# Altium footprint library MCU089B.PcbLib: 51 footprints (part 1 of 4)
Each footprint in its own frame and in the unit in brackets; x right, y up, seen from the top. Pads: shape width x height; smd on the part's side, far side on the other; paste and mask are expansions set on the pad; w line width, h text height; cw(c..) or ccw(c..) is an arc to the next point about the centre after c.
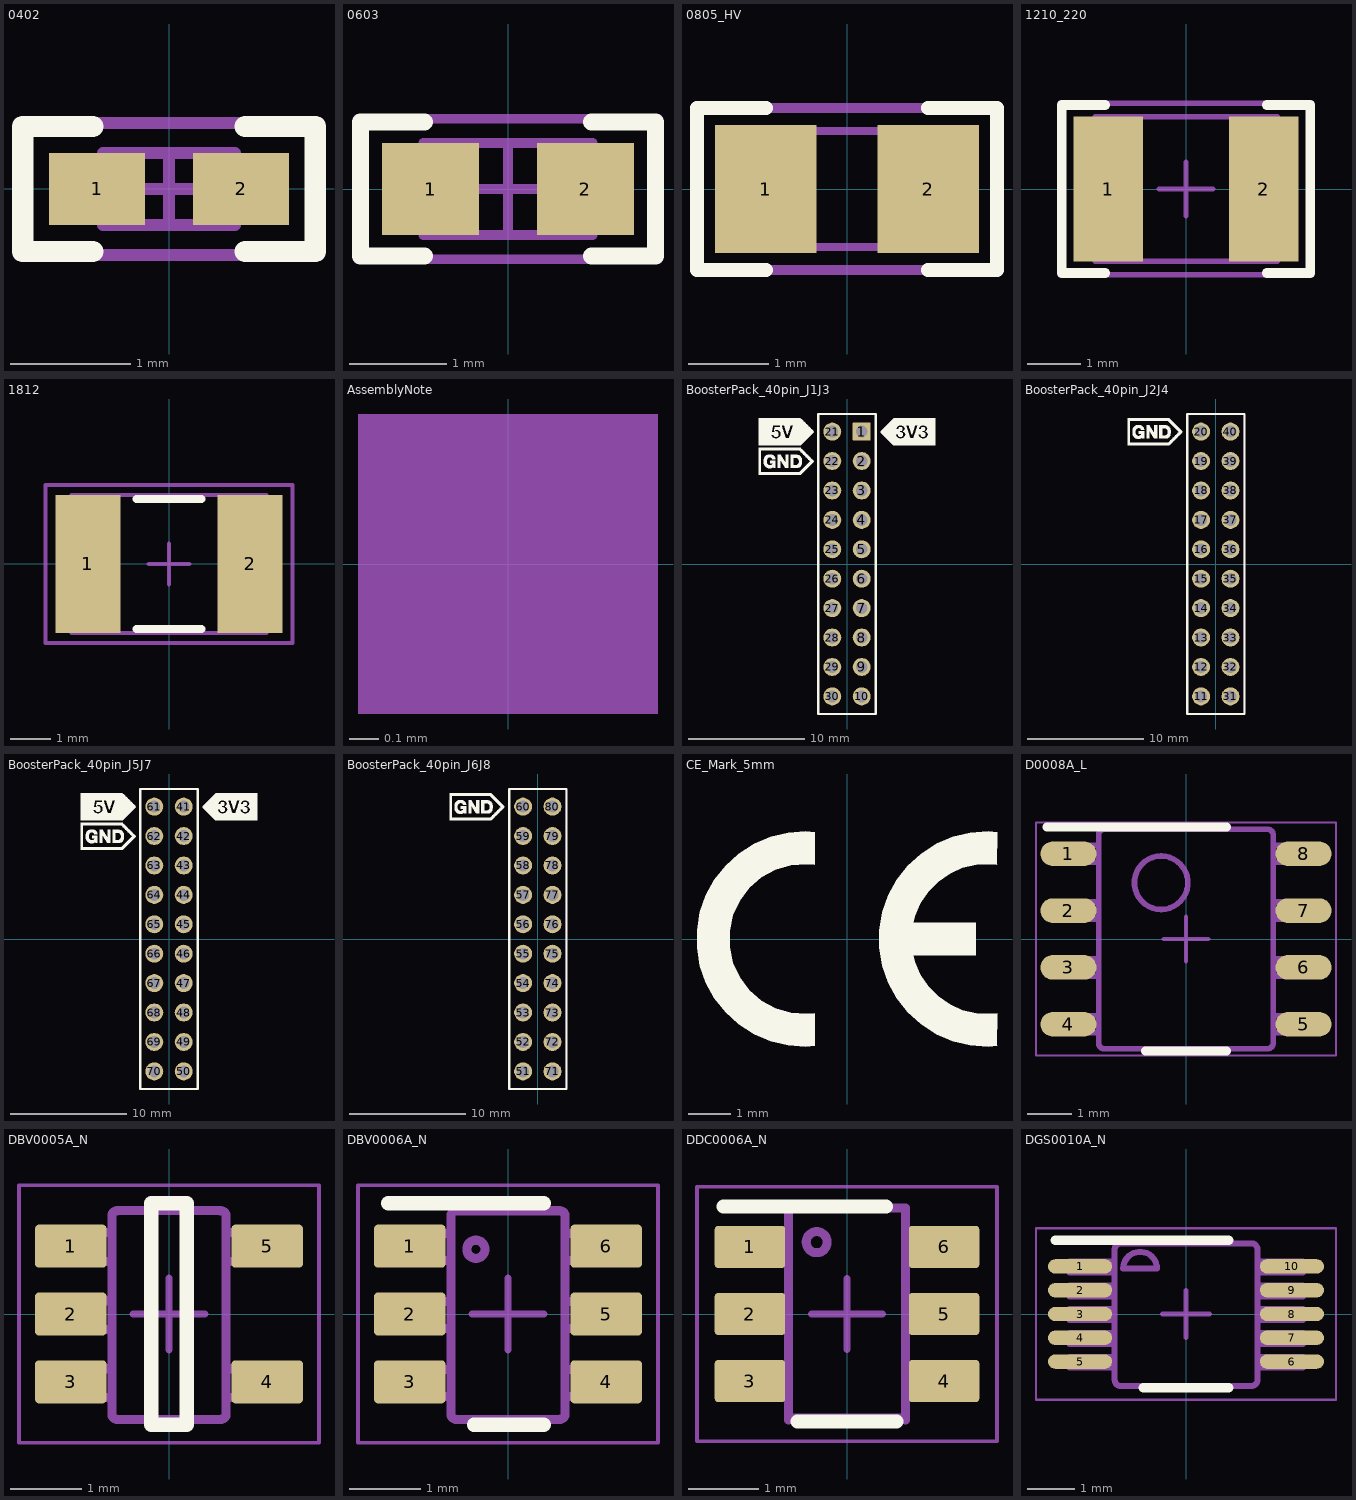
[diagram p0: the footprints below, top view; thin cyan lines are the x and y axes]

## 0402 [mm] "0402 from SM-752 data"
height 0.6
pads (2):
  rect 0.8x0.6 smd: 1(-0.6,0) 2(0.6,0)
Top Overlay:
  lines w0.178: -0.635,-0.521 -1.219,-0.521 -1.219,0.521 -0.635,0.521 ; 0.635,-0.521 1.219,-0.521 1.219,0.521 0.635,0.521
Mechanical 5:
  lines w0.1: -1.25,-0.55 -1.25,0.55 1.25,0.55 1.25,-0.55 -1.25,-0.55
  text ".Designator" at -1.117,-0.305 h0.61
Mechanical 13:
  lines w0.1: -0.35,-0.3 -0.35,0.3 ; 0.35,-0.3 0.35,0.3 ; -0.55,-0.3 0.55,-0.3 0.55,0.3 -0.55,0.3 -0.55,-0.3
Mechanical 15:
  lines w0.1: -0.3,0 0.3,0 ; 0,-0.3 0,0.3 ; -1.25,-0.55 1.25,-0.55 1.25,0.55 -1.25,0.55 -1.25,-0.55
3D body: height 0.6, standoff 0, extent 0.351,-0.299 0.549,0.299
3D body: height 0.6, standoff 0, extent -0.349,-0.299 0.349,0.299
3D body: height 0.6, standoff 0, extent -0.549,-0.299 -0.351,0.299

## 0603 [mm] "0603 from SM-752 data"
height 1
pads (2):
  rect 1x0.95 smd: 1(-0.8,0) 2(0.8,0)
Top Overlay:
  lines w0.178: -0.864,-0.691 -1.524,-0.691 -1.524,0.693 -0.864,0.693 ; 0.864,-0.691 1.524,-0.691 1.524,0.693 0.864,0.693
Mechanical 5:
  lines w0.1: -1.55,-0.725 1.55,-0.725 1.55,0.725 -1.55,0.725 -1.55,-0.725
  text ".Designator" at -1.397,-0.381 h0.76
Mechanical 13:
  lines w0.1: -0.55,-0.475 -0.55,0.475 ; 0.55,-0.475 0.55,0.475 ; -0.875,-0.475 -0.875,0.475 0.875,0.475 0.875,-0.475 -0.875,-0.475
Mechanical 15:
  lines w0.1: -0.475,0 0.475,0 ; 0,-0.475 0,0.475 ; -1.55,-0.725 -1.55,0.725 1.55,0.725 1.55,-0.725 -1.55,-0.725
3D body: height 1, standoff 0, extent 0.551,-0.474 0.874,0.474
3D body: height 1, standoff 0, extent -0.549,-0.474 0.549,0.474
3D body: height 1, standoff 0, extent -0.874,-0.474 -0.551,0.474

## 0805_HV [mil] "0805 with 30mil clearance between pads"
height 57.09
pads (2):
  rect 50x63 smd: 1(-40,0) 2(40,0)
Top Overlay:
  lines w7: -40,-40 -74,-40 -74,0 -74,40 -40,40 ; 40,-40 74,-40 74,0 74,40 40,40
Mechanical 5:
  lines w5: -74,-40 -74,40 74,40 74,-40 -74,-40
  text ".Designator" at -64,-17 h35
Mechanical 13:
  lines w3.94: -25.59,-28.54 -25.59,28.54 ; 25.59,-28.54 25.59,28.54 ; -43.31,-28.54 -43.31,28.54 43.31,28.54 43.31,-28.54 -43.31,-28.54
3D body: height 57.09, standoff 0, extent 25.61,-28.52 43.29,28.52
3D body: height 57.09, standoff 0, extent -25.57,-28.52 25.57,28.52
3D body: height 57.09, standoff 0, extent -43.29,-28.52 -25.61,28.52

## 1210_220 [mm] "1210"
height 2.2
pads (2):
  rect 1.3x2.7 smd: 1(-1.45,0) 2(1.45,0)
Top Overlay:
  lines w0.178: -1.511,-1.568 -2.316,-1.568 -2.316,1.568 -1.511,1.568 ; 1.511,-1.568 2.316,-1.568 2.316,1.568 1.511,1.568
Mechanical 5:
  lines w0.1: -1.7,-1.35 -1.7,1.35 1.7,1.35 1.7,-1.35 -1.7,-1.35
  text ".Designator" at -1.4,-0.375 h0.76
Mechanical 13:
  lines w0.1: -1.2,-1.35 -1.2,1.35 ; 1.2,-1.35 1.2,1.35 ; -1.7,-1.35 1.7,-1.35 1.7,1.35 -1.7,1.35 -1.7,-1.35
Mechanical 15:
  lines w0.1: -0.5,0 0.5,0 ; 0,-0.5 0,0.5 ; -2.35,-1.6 2.35,-1.6 2.35,1.6 -2.35,1.6 -2.35,-1.6
3D body: height 2.2, standoff 0, extent 1.201,-1.349 1.699,1.349
3D body: height 2.2, standoff 0, extent -1.199,-1.349 1.199,1.349
3D body: height 2.2, standoff 0, extent -1.699,-1.349 -1.201,1.349

## 1812 [mm]
height 1.35
pads (2):
  rect 1.6x3.4 smd: 1(-2,0) 2(2,0)
Top Overlay:
  lines w0.2: -0.8,-1.6 0.8,-1.6 ; -0.8,1.6 0.8,1.6
Mechanical 5:
  lines w0.1: -2.4,-1.7 2.4,-1.7 2.4,1.7 -2.4,1.7 -2.4,-1.7
  text ".Designator" at -1.875,-0.5 h1.02
Mechanical 13:
  lines w0.1: -1.9,-1.7 -1.9,1.7 ; 1.9,-1.7 1.9,1.7 ; -2.4,-1.7 -2.4,1.7 2.4,1.7 2.4,-1.7 -2.4,-1.7
Mechanical 15:
  lines w0.1: -0.5,0 0.5,0 ; 0,-0.5 0,0.5 ; -3.05,-1.95 -3.05,1.95 3.05,1.95 3.05,-1.95 -3.05,-1.95
3D body: height 1.35, standoff 0, extent -2.399,-1.699 -1.901,1.699
3D body: height 1.35, standoff 0, extent -1.899,-1.699 1.899,1.699
3D body: height 1.35, standoff 0, extent 1.901,-1.699 2.399,1.699

## AssemblyNote [mm] "Assembly Note"
height 8.64
Mechanical 5:
  rectangle: -0.508,-0.508 0.508,0.508
  text ".Comment" at 1.143,-0.508 h1.02
  text ".Designator" at -4.191,-0.508 h1.02

## BoosterPack_40pin_J1J3 [mm] "Receptacle, 2.54mm, 10x2, TH"
height 8.64
pads (20):
  rrect6% 1.55x1.55 hole 1.02: 1(1.27,11.43)
  round 1.55 hole 1.02: 2(1.27,8.89) 3(1.27,6.35) 4(1.27,3.81) 5(1.27,1.27) 6(1.27,-1.27) 7(1.27,-3.81) 8(1.27,-6.35) 9(1.27,-8.89) 10(1.27,-11.43) 21(-1.27,11.43) 22(-1.27,8.89) 23(-1.27,6.35) 24(-1.27,3.81) 25(-1.27,1.27) 26(-1.27,-1.27) 27(-1.27,-3.81) 28(-1.27,-6.35) 29(-1.27,-8.89) 30(-1.27,-11.43)
Top Overlay:
  drawing of 1871 lines, arcs and shapes, not listed
Bottom Overlay:
  drawing of 1868 lines, arcs and shapes, not listed
  text "21" at -0.762,13.208 h0.76
  text "30" at -0.635,-13.97 h0.76
  text "1" at 1.397,13.208 h0.76
  text "10" at 1.829,-13.97 h0.76
  text "J3" at -2.5,13.208 h1.02
  text "J1" at 4.292,13.208 h1.02
Mechanical 5:
  lines w0.1: -2.476,-12.954 2.477,-12.954 2.477,12.954 -2.476,12.954 -2.476,-12.954
  text ".Designator" at -0.508,1.524 h1.02
3D body "SSQ-110-03-T-D.stp": height 8.51, standoff -10.01, extent -2.476,-12.954 2.477,12.954

## BoosterPack_40pin_J2J4 [mm] "Receptacle, 2.54mm, 10x2, TH"
height 8.64
pads (20):
  round 1.55 hole 1.02: 11(-1.27,-11.43) 12(-1.27,-8.89) 13(-1.27,-6.35) 14(-1.27,-3.81) 15(-1.27,-1.27) 16(-1.27,1.27) 17(-1.27,3.81) 18(-1.27,6.35) 19(-1.27,8.89) 20(-1.27,11.43) 31(1.27,-11.43) 32(1.27,-8.89) 33(1.27,-6.35) 34(1.27,-3.81) 35(1.27,-1.27) 36(1.27,1.27) 37(1.27,3.81) 38(1.27,6.35) 39(1.27,8.89) 40(1.27,11.43)
Top Overlay:
  drawing of 822 lines, arcs and shapes, not listed
Bottom Overlay:
  drawing of 818 lines, arcs and shapes, not listed
  text "J4" at 4.292,13.208 h1.02
  text "J2" at -2.5,13.208 h1.02
  text "20" at -0.635,13.208 h0.76
  text "11" at -0.838,-13.97 h0.76
  text "31" at 1.778,-13.97 h0.76
  text "40" at 1.905,13.208 h0.76
Mechanical 5:
  lines w0.1: -2.476,-12.954 2.477,-12.954 2.477,12.954 -2.476,12.954 -2.476,-12.954
  text ".Designator" at -0.508,1.524 h1.02
3D body "SSQ-110-03-T-D.stp": height 8.51, standoff -10.01, extent -2.476,-12.954 2.477,12.954

## BoosterPack_40pin_J5J7 [mm] "Receptacle, 2.54mm, 10x2, TH"
height 8.64
pads (20):
  round 1.55 hole 1.02: 41(1.27,11.43) 42(1.27,8.89) 43(1.27,6.35) 44(1.27,3.81) 45(1.27,1.27) 46(1.27,-1.27) 47(1.27,-3.81) 48(1.27,-6.35) 49(1.27,-8.89) 50(1.27,-11.43) 61(-1.27,11.43) 62(-1.27,8.89) 63(-1.27,6.35) 64(-1.27,3.81) 65(-1.27,1.27) 66(-1.27,-1.27) 67(-1.27,-3.81) 68(-1.27,-6.35) 69(-1.27,-8.89) 70(-1.27,-11.43)
Top Overlay:
  drawing of 1871 lines, arcs and shapes, not listed
Bottom Overlay:
  drawing of 1868 lines, arcs and shapes, not listed
  text "J5" at 4.292,13.208 h1.02
  text "J7" at -2.5,13.208 h1.02
  text "50" at 1.829,-13.97 h0.76
  text "41" at 1.905,13.208 h0.76
  text "70" at -0.635,-13.97 h0.76
  text "61" at -0.762,13.208 h0.76
Mechanical 5:
  lines w0.1: -2.476,-12.954 -2.476,12.954 2.477,12.954 2.477,-12.954 -2.476,-12.954
  text ".Designator" at -0.508,1.524 h1.02
3D body "SSQ-110-03-T-D.stp": height 8.51, standoff -10.01, extent -2.476,-12.954 2.477,12.954

## BoosterPack_40pin_J6J8 [mm] "Receptacle, 2.54mm, 10x2, TH"
height 8.64
pads (20):
  round 1.55 hole 1.02: 51(-1.27,-11.43) 52(-1.27,-8.89) 53(-1.27,-6.35) 54(-1.27,-3.81) 55(-1.27,-1.27) 56(-1.27,1.27) 57(-1.27,3.81) 58(-1.27,6.35) 59(-1.27,8.89) 60(-1.27,11.43) 71(1.27,-11.43) 72(1.27,-8.89) 73(1.27,-6.35) 74(1.27,-3.81) 75(1.27,-1.27) 76(1.27,1.27) 77(1.27,3.81) 78(1.27,6.35) 79(1.27,8.89) 80(1.27,11.43)
Top Overlay:
  drawing of 822 lines, arcs and shapes, not listed
Bottom Overlay:
  drawing of 818 lines, arcs and shapes, not listed
  text "80" at 1.905,13.208 h0.76
  text "71" at 1.778,-13.97 h0.76
  text "51" at -0.838,-13.97 h0.76
  text "60" at -0.635,13.208 h0.76
  text "J6" at -2.5,13.208 h1.02
  text "J8" at 4.292,13.208 h1.02
Mechanical 5:
  lines w0.1: -2.476,-12.954 -2.476,12.954 2.477,12.954 2.477,-12.954 -2.476,-12.954
  text ".Designator" at -0.508,1.524 h1.02
3D body "SSQ-110-03-T-D.stp": height 8.51, standoff -10.01, extent -2.476,-12.954 2.477,12.954

## CE_Mark_5mm [mm] "Minimum text height for CE Mark"
Top Overlay:
  region: 3.5,-1.732 3.337,-1.748 3.01,-1.733 2.691,-1.658 2.392,-1.525 2.123,-1.339 1.894,-1.106 1.712,-0.834 1.583,-0.533 1.541,-0.375 3,-0.375 3,0.375 1.541,0.375 1.583,0.533 1.712,0.834 1.894,1.106 2.123,1.339 2.392,1.525 2.691,1.658 3.01,1.733 3.337,1.748 3.5,1.732 3.5,2.487 3.292,2.508 2.874,2.48 2.467,2.383 2.081,2.22 1.728,1.994 1.418,1.714 1.158,1.385 0.957,1.018 0.82,0.622 0.75,0.209 0.75,-0.209 0.82,-0.622 0.957,-1.018 1.158,-1.385 1.418,-1.714 1.728,-1.994 2.081,-2.22 2.467,-2.383 2.874,-2.48 3.292,-2.508 3.5,-2.487
  region: -0.75,-2.487 -0.958,-2.508 -1.376,-2.48 -1.783,-2.383 -2.169,-2.22 -2.522,-1.994 -2.832,-1.714 -3.092,-1.385 -3.293,-1.018 -3.43,-0.622 -3.5,-0.209 -3.5,0.209 -3.43,0.622 -3.293,1.018 -3.092,1.385 -2.832,1.714 -2.522,1.994 -2.169,2.22 -1.783,2.383 -1.376,2.48 -0.958,2.508 -0.75,2.487 -0.75,1.732 -0.937,1.749 -1.31,1.722 -1.669,1.617 -1.998,1.438 -2.281,1.193 -2.505,0.893 -2.66,0.553 -2.74,0.187 -2.74,-0.187 -2.66,-0.553 -2.505,-0.893 -2.281,-1.193 -1.998,-1.438 -1.669,-1.617 -1.31,-1.722 -0.937,-1.749 -0.75,-1.732

## D0008A_L [mm] "SOIC, 8-Leads, Body 4.9x3.9mm, Pitch 1.27mm, IPC High Density"
height 1.75
pads (8):
  oval 1.25x0.55 smd: 1(-2.625,1.905) 2(-2.625,0.635) 3(-2.625,-0.635) 4(-2.625,-1.905) 5(2.625,-1.905) 6(2.625,-0.635) 7(2.625,0.635) 8(2.625,1.905)
Top Overlay:
  lines w0.2: -3.1,2.5 0.9,2.5 ; -0.9,-2.5 0.9,-2.5
Mechanical 5:
  lines w0.127: -2.375,-2.095 -2.375,-1.715 ; -2.375,-2.095 -2.589,-2.095 -3.002,-2.095 -3.002,-1.715 -2.589,-1.715 -2.375,-1.715 ; -2.375,-2.095 -1.995,-2.095 -1.952,-2.095 -1.952,-1.715 -1.995,-1.715 -2.375,-1.715 ; -2.375,-0.825 -2.375,-0.445 ; -2.375,-0.825 -2.589,-0.825 -3.002,-0.825 -3.002,-0.445 -2.589,-0.445 -2.375,-0.445 ; -2.375,-0.825 -1.995,-0.825 -1.952,-0.825 -1.952,-0.445 -1.995,-0.445 -2.375,-0.445 ; -2.375,0.445 -2.375,0.825 ; -2.375,0.445 -2.589,0.445 -3.002,0.445 -3.002,0.825 -2.589,0.825 -2.375,0.825 ; -2.375,0.445 -1.995,0.445 -1.952,0.445 -1.952,0.825 -1.995,0.825 -2.375,0.825 ; -2.375,1.715 -2.375,2.095 ; -2.375,1.715 -2.589,1.715 -3.002,1.715 -3.002,2.095 -2.589,2.095 -2.375,2.095 ; -2.375,1.715 -1.995,1.715 -1.952,1.715 -1.952,2.095 -1.995,2.095 -2.375,2.095 ; -0.332,-2.45 -0.182,-2.45 ; -0.332,-2.45 -0.182,-2.45 ; -0.332,-2.45 -1.825,-2.45 -1.826,-2.45 cw(c-1.825,-2.323) -1.952,-2.324 -1.952,-2.323 -1.952,2.323 -1.952,2.324 cw(c-1.825,2.323) -1.826,2.45 -1.825,2.45 -0.332,2.45 ; -0.332,2.45 -0.182,2.45 ; -0.332,2.45 -0.182,2.45 ; -0.182,-2.45 0.178,-2.45 ; -0.182,2.45 0.178,2.45 ; 0.178,-2.45 0.328,-2.45 ; 0.178,-2.45 0.328,-2.45 ; 0.178,2.45 0.328,2.45 ; 0.178,2.45 0.328,2.45 ; 0.328,-2.45 1.821,-2.45 1.822,-2.45 ccw(c1.821,-2.323) 1.948,-2.324 1.948,-2.323 1.948,2.323 1.948,2.324 ccw(c1.821,2.323) 1.822,2.45 1.821,2.45 0.328,2.45 ; 2.371,-2.095 2.371,-1.715 ; 2.371,-2.095 1.991,-2.095 1.948,-2.095 1.948,-1.715 1.991,-1.715 2.371,-1.715 ; 2.371,-2.095 2.585,-2.095 2.998,-2.095 2.998,-1.715 2.585,-1.715 2.371,-1.715 ; 2.371,-0.825 2.371,-0.445 ; 2.371,-0.825 1.991,-0.825 1.948,-0.825 1.948,-0.445 1.991,-0.445 2.371,-0.445 ; 2.371,-0.825 2.585,-0.825 2.998,-0.825 2.998,-0.445 2.585,-0.445 2.371,-0.445 ; 2.371,0.445 2.371,0.825 ; 2.371,0.445 1.991,0.445 1.948,0.445 1.948,0.825 1.991,0.825 2.371,0.825 ; 2.371,0.445 2.585,0.445 2.998,0.445 2.998,0.825 2.585,0.825 2.371,0.825 ; 2.371,1.715 2.371,2.095 ; 2.371,1.715 1.991,1.715 1.948,1.715 1.948,2.095 1.991,2.095 2.371,2.095 ; 2.371,1.715 2.585,1.715 2.998,1.715 2.998,2.095 2.585,2.095 2.371,2.095 ; -0.555,0.659 ccw(c-0.555,1.256) -0.555,1.853 ccw(c-0.555,1.256) -0.555,0.659
  text ".Designator" at -1.625,-0.625 h0.89
Mechanical 15:
  lines w0.05: -3.35,-2.6 3.35,-2.6 3.35,2.6 -3.35,2.6 -3.35,-2.6
  lines w0.1: -0.5,0 0.5,0 ; 0,-0.5 0,0.5
3D body "D0008A.stp": height 1.63, standoff 0, extent -3,-2.45 3,2.45

## DBV0005A_N [mm] "SOT23, 5-Leads, Body 2.9x1.6mm, Pitch 0.95mm, Lead Span 2.8mm, IPC Medium Density"
height 1.45
pads (5):
  rrect17% 1x0.6 smd: 1(-1.375,0.95) 2(-1.375,0) 3(-1.375,-0.95) 4(1.375,-0.95) 5(1.375,0.95)
Top Overlay:
  lines w0.2: -0.25,-1.55 -0.25,1.55 0.25,1.55 0.25,-1.55 -0.25,-1.55
Mechanical 5:
  lines w0.127: -0.801,1.371 cw(c-0.725,1.37) -0.725,1.446 ; -0.801,1.37 -0.801,1.371 ; -0.801,1.37 -0.801,-1.399 -0.801,-1.4 ccw(c-0.725,-1.399) -0.725,-1.475 ; -0.725,-1.475 0.723,-1.475 0.724,-1.475 ccw(c0.723,-1.399) 0.799,-1.4 0.799,-1.399 0.799,1.37 ; -0.725,-1.475 -0.725,-1.475 ; -0.725,1.446 -0.725,1.446 ; -0.725,1.446 0.723,1.446 0.724,1.446 cw(c0.723,1.37) 0.799,1.371 ; 0.799,1.37 0.799,1.371 ; -1.423,-1.167 -1.423,-0.767 -1.199,-0.767 -1.105,-0.767 -1.088,-0.767 -0.835,-0.767 -0.801,-0.767 -0.801,-1.167 -0.835,-1.167 -1.088,-1.167 -1.105,-1.167 -1.199,-1.167 -1.423,-1.167 ; -1.423,-0.215 -1.423,0.186 -1.199,0.186 -1.105,0.186 -1.088,0.186 -0.835,0.186 -0.801,0.186 -0.801,-0.215 -0.835,-0.215 -1.088,-0.215 -1.105,-0.215 -1.199,-0.215 -1.423,-0.215 ; -1.423,0.738 -1.423,1.138 -1.199,1.138 -1.105,1.138 -1.088,1.138 -0.835,1.138 -0.801,1.138 -0.801,0.738 -0.835,0.738 -1.088,0.738 -1.105,0.738 -1.199,0.738 -1.423,0.738 ; 0.799,-1.167 0.834,-1.167 1.087,-1.167 1.103,-1.167 1.198,-1.167 1.422,-1.167 1.422,-0.767 1.198,-0.767 1.103,-0.767 1.087,-0.767 0.834,-0.767 0.799,-0.767 0.799,-1.167 ; 0.799,0.738 0.834,0.738 1.087,0.738 1.103,0.738 1.198,0.738 1.422,0.738 1.422,1.138 1.198,1.138 1.103,1.138 1.087,1.138 0.834,1.138 0.799,1.138 0.799,0.738
  text ".Designator" at -0.25,0.95 h0.51
Mechanical 15:
  lines w0.05: -2.1,-1.8 -2.1,1.8 2.1,1.8 2.1,-1.8 -2.1,-1.8
  lines w0.1: -0.5,0 0.5,0 ; 0,-0.5 0,0.5
3D body "DBV0005A.stp": height 1.09, standoff 0, extent -1.422,-1.461 1.423,1.46

## DBV0006A_N [mm] "SOT23, 6-Leads, Body 2.9x1.6mm, Pitch 0.95mm, Lead Span 2.8mm, IPC Medium Density"
height 1.45
pads (6):
  rrect17% 1x0.6 smd: 1(-1.375,0.95) 2(-1.375,0) 3(-1.375,-0.95) 4(1.375,-0.95) 5(1.375,0) 6(1.375,0.95)
Top Overlay:
  lines w0.2: -1.675,1.55 0.5,1.55 ; -0.475,-1.55 0.5,-1.55
Mechanical 5:
  lines w0.127: 0.724,-1.475 ccw(c0.723,-1.399) 0.8,-1.399 0.8,1.37 ccw(c0.723,1.37) 0.724,1.446 ; 0.723,-1.475 0.724,-1.475 ; 0.723,-1.475 -0.724,-1.475 -0.725,-1.475 cw(c-0.724,-1.399) -0.801,-1.399 -0.801,1.37 cw(c-0.724,1.37) -0.725,1.446 -0.724,1.446 0.723,1.446 ; 0.723,1.446 0.724,1.446 ; -1.423,-1.154 -1.206,-1.154 -1.113,-1.154 -1.081,-1.154 -0.828,-1.154 -0.801,-1.154 -0.801,-0.78 -0.828,-0.78 -1.081,-0.78 -1.113,-0.78 -1.206,-0.78 -1.423,-0.78 -1.423,-1.154 ; -1.423,-0.202 -1.206,-0.202 -1.113,-0.202 -1.081,-0.202 -0.828,-0.202 -0.801,-0.202 -0.801,0.173 -0.828,0.173 -1.081,0.173 -1.113,0.173 -1.206,0.173 -1.423,0.173 -1.423,-0.202 ; -1.423,0.751 -1.206,0.751 -1.113,0.751 -1.081,0.751 -0.828,0.751 -0.801,0.751 -0.801,1.125 -0.828,1.125 -1.081,1.125 -1.113,1.125 -1.206,1.125 -1.423,1.125 -1.423,0.751 ; -0.577,0.906 cw(c-0.45,0.906) -0.323,0.906 cw(c-0.45,0.906) -0.577,0.906 ; 0.8,-1.154 0.827,-1.154 1.08,-1.154 1.112,-1.154 1.205,-1.154 1.422,-1.154 1.422,-0.78 1.205,-0.78 1.112,-0.78 1.08,-0.78 0.827,-0.78 0.8,-0.78 0.8,-1.154 ; 0.8,-0.202 0.827,-0.202 1.08,-0.202 1.112,-0.202 1.205,-0.202 1.422,-0.202 1.422,0.173 1.205,0.173 1.112,0.173 1.08,0.173 0.827,0.173 0.8,0.173 0.8,-0.202 ; 0.8,0.751 0.827,0.751 1.08,0.751 1.112,0.751 1.205,0.751 1.422,0.751 1.422,1.125 1.205,1.125 1.112,1.125 1.08,1.125 0.827,1.125 0.8,1.125 0.8,0.751
  text ".Designator" at -0.075,0.925 h0.51
Mechanical 15:
  lines w0.05: -2.1,-1.8 2.1,-1.8 2.1,1.8 -2.1,1.8 -2.1,-1.8
  lines w0.1: -0.5,0 0.5,0 ; 0,-0.5 0,0.5
3D body "DBV0006A.stp": height 1.12, standoff 0, extent -1.422,-1.461 1.423,1.46

## DDC0006A_N [mm]
height 1.1
pads (6):
  rrect17% 1x0.6 smd: 1(-1.375,0.95) 2(-1.375,0) 3(-1.375,-0.95) 4(1.375,-0.95) 5(1.375,0) 6(1.375,0.95)
Top Overlay:
  lines w0.2: -1.75,1.525 0.55,1.525 ; -0.7,-1.524 0.7,-1.524
Mechanical 5:
  lines w0.127: -0.828,-1.5 -0.828,1.5 0.828,1.5 0.828,-1.5 ; -0.825,-1.165 -1.437,-1.165 -1.437,-0.735 -0.825,-0.735 ; -0.825,-0.215 -1.437,-0.215 -1.437,0.215 -0.825,0.215 ; -0.825,0.735 -1.437,0.735 -1.437,1.165 -0.825,1.165 ; -0.754,-1.47 -0.75,-1.47 0.743,-1.47 0.747,-1.47 ; -0.754,1.5 -0.75,1.5 ; 0.743,1.5 0.747,1.5 ; 0.825,-1.165 1.437,-1.165 1.437,-0.735 0.825,-0.735 ; 0.825,-0.215 1.437,-0.215 1.437,0.215 0.825,0.215 ; 0.825,0.735 1.437,0.735 1.437,1.165 0.825,1.165 ; -0.578,1.018 ccw(c-0.43,1.018) -0.281,1.018 ccw(c-0.43,1.018) -0.578,1.018
  text ".Designator" at -0.246,2.641 h0.51
Mechanical 15:
  lines w0.05: -2.125,-1.8 -2.125,1.8 2.125,1.8 2.125,-1.8 -2.125,-1.8
  lines w0.1: -0.5,0 0.5,0 ; 0,-0.5 0,0.5
3D body "DDC0006A.stp": height 0.92, standoff 0, extent -1.434,-1.485 1.434,1.485

## DGS0010A_N [mm] "TSSOP, 10-Leads, Body 3x3mm, Pitch 0.5mm, IPC Medium Density"
height 1.1
pads (10):
  oval 1.35x0.3 smd: 1(-2.225,1) 2(-2.225,0.5) 3(-2.225,0) 4(-2.225,-0.5) 5(-2.225,-1) 6(2.225,-1) 7(2.225,-0.5) 8(2.225,0) 9(2.225,0.5) 10(2.225,1)
Top Overlay:
  lines w0.2: -2.75,1.55 0.9,1.55 ; -0.9,-1.55 0.9,-1.55
Mechanical 5:
  lines w0.127: -2.45,-1.128 -2.21,-1.128 -2.09,-1.128 -2.087,-1.128 -1.784,-1.128 -1.498,-1.128 -1.498,-0.899 -1.784,-0.899 -2.087,-0.899 -2.09,-0.899 -2.21,-0.899 -2.45,-0.899 -2.45,-1.128 ; -2.45,-0.628 -2.21,-0.628 -2.09,-0.628 -2.087,-0.628 -1.784,-0.628 -1.498,-0.628 -1.498,-0.4 -1.784,-0.4 -2.087,-0.4 -2.09,-0.4 -2.21,-0.4 -2.45,-0.4 -2.45,-0.628 ; -2.45,-0.128 -2.21,-0.128 -2.09,-0.128 -2.087,-0.128 -1.784,-0.128 -1.498,-0.128 -1.498,0.1 -1.784,0.1 -2.087,0.1 -2.09,0.1 -2.21,0.1 -2.45,0.1 -2.45,-0.128 ; -2.45,0.372 -2.21,0.372 -2.09,0.372 -2.087,0.372 -1.784,0.372 -1.498,0.372 -1.498,0.6 -1.784,0.6 -2.087,0.6 -2.09,0.6 -2.21,0.6 -2.45,0.6 -2.45,0.372 ; -2.45,0.871 -2.21,0.871 -2.09,0.871 -2.087,0.871 -1.784,0.871 -1.498,0.871 -1.498,1.1 -1.784,1.1 -2.087,1.1 -2.09,1.1 -2.21,1.1 -2.45,1.1 -2.45,0.871 ; -1.497,-1.388 ccw(c-1.37,-1.386) -1.373,-1.513 -1.371,-1.513 1.373,-1.513 1.375,-1.513 ccw(c1.373,-1.386) 1.5,-1.388 1.5,-1.386 1.5,1.358 1.5,1.36 ccw(c1.373,1.358) 1.375,1.485 1.373,1.485 -1.371,1.485 -1.373,1.485 ccw(c-1.37,1.358) -1.497,1.36 -1.498,1.358 -1.498,-1.386 -1.497,-1.388 ; -1.32,0.951 cw(c-0.964,0.951) -0.609,0.951 -1.32,0.951 ; 1.5,-1.128 1.786,-1.128 2.089,-1.128 2.093,-1.128 2.213,-1.128 2.452,-1.128 2.452,-0.899 2.213,-0.899 2.093,-0.899 2.089,-0.899 1.786,-0.899 1.5,-0.899 1.5,-1.128 ; 1.5,-0.628 1.786,-0.628 2.089,-0.628 2.093,-0.628 2.213,-0.628 2.452,-0.628 2.452,-0.4 2.213,-0.4 2.093,-0.4 2.089,-0.4 1.786,-0.4 1.5,-0.4 1.5,-0.628 ; 1.5,-0.128 1.786,-0.128 2.089,-0.128 2.093,-0.128 2.213,-0.128 2.452,-0.128 2.452,0.1 2.213,0.1 2.093,0.1 2.089,0.1 1.786,0.1 1.5,0.1 1.5,-0.128 ; 1.5,0.372 1.786,0.372 2.089,0.372 2.093,0.372 2.213,0.372 2.452,0.372 2.452,0.6 2.213,0.6 2.093,0.6 2.089,0.6 1.786,0.6 1.5,0.6 1.5,0.372 ; 1.5,0.871 1.786,0.871 2.089,0.871 2.093,0.871 2.213,0.871 2.452,0.871 2.452,1.1 2.213,1.1 2.093,1.1 2.089,1.1 1.786,1.1 1.5,1.1 1.5,0.871
  text ".Designator" at -0.125,1.2 h0.64
Mechanical 15:
  lines w0.05: -3.15,-1.8 -3.15,1.8 3.15,1.8 3.15,-1.8 -3.15,-1.8
  lines w0.1: -0.5,0 0.5,0 ; 0,-0.5 0,0.5
3D body "DGS0010A.stp": height 0.96, standoff 0, extent -2.451,-1.499 2.451,1.499